# EAGLE library part 06 (library Erni-MicroStack)
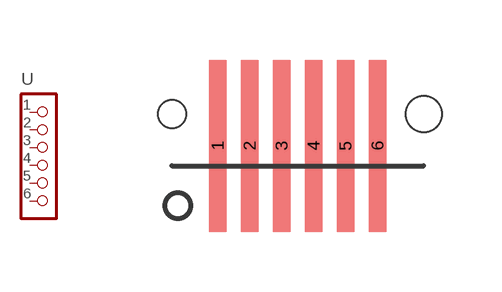
[diagram p0: symbol with the pads of 06X1; footprint 06X1]

Designator prefix -

## 06  [06X1]
1  1
2  2
3  3  pas
4  4  pas
5  5  pas
6  6  pas

## Footprint 06X1 (pad centres in mm)
smd 0.44 x 4.3: 1 -2,0.5; 2 -1.2,0.5; 3 -0.4,0.5; 4 0.4,0.5; 5 1.2,0.5; 6 2,0.5
hole 0.7 at -3.15,1.3
hole 0.9 at 3.15,1.3